# EAGLE library part K-SUBD-9- (library elpp-tht-v1.2)
Connector, sub-d
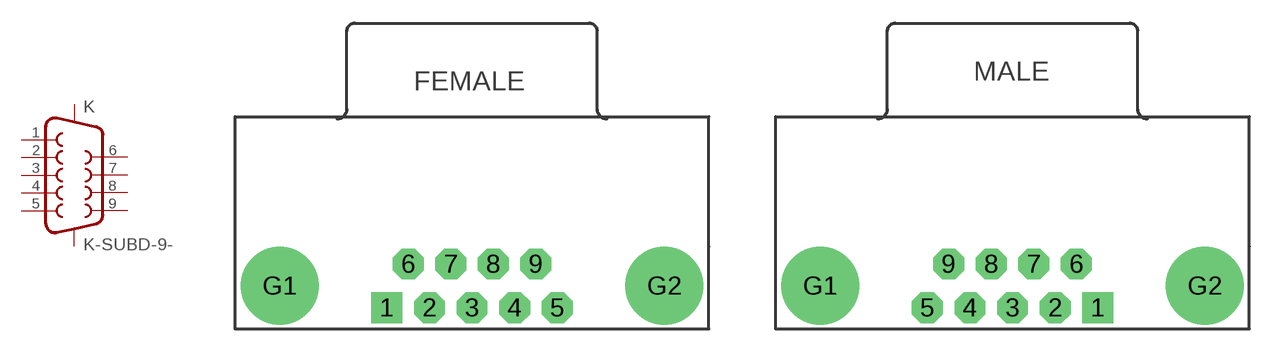
[diagram p0: symbol with the pads of ELPP-SUBD-9-FEMALE; footprints ELPP-SUBD-9-FEMALE, ELPP-SUDB-9-MALE]

Designator prefix K

## K-SUBD-9-FEMALE (FARNELL: 8391289; RS: 495-9760)  [ELPP-SUBD-9-FEMALE]
1  1  pas
2  2  pas
3  3  pas
4  4  pas
5  5  pas
6  6  pas
7  7  pas
8  8  pas
9  9  pas
G1  P$1  pas
G2  P$2  pas

## K-SUBD-9-MALE (FARNELL: 8391327; RS: 495-9805)  [ELPP-SUDB-9-MALE]
Pads as for ELPP-SUBD-9-FEMALE

## Footprint ELPP-SUBD-9-FEMALE (pad centres in mm)
Connector Sub-D, 9-way, female
drill 1 pad 2 square: 1 -5.54,-1.42
drill 1 pad 2 octagon: 2 -2.77,-1.42; 3 0,-1.42; 4 2.77,-1.42; 5 5.54,-1.42; 6 -4.15,1.42; 7 -1.38,1.42; 8 1.38,1.42; 9 4.15,1.42
drill 3.3 pad 5.08: G1 -12.5,0; G2 12.5,0

## Footprint ELPP-SUDB-9-MALE (pad centres in mm)
Connector Sub-D, 9-way, male
drill 1 pad 2 square: 1 5.54,-1.42
drill 1 pad 2 octagon: 2 2.77,-1.42; 3 0,-1.42; 4 -2.77,-1.42; 5 -5.54,-1.42; 6 4.15,1.42; 7 1.38,1.42; 8 -1.38,1.42; 9 -4.15,1.42
drill 3.3 pad 5.08: G1 -12.5,0; G2 12.5,0